# Altium footprint library CAP-ELECTRO-SMD.PcbLib: 1 footprints
Each footprint in its own frame and in the unit in brackets; x right, y up, seen from the top. Pads: shape width x height; smd on the part's side, far side on the other; paste and mask are expansions set on the pad; w line width, h text height; cw(c..) or ccw(c..) is an arc to the next point about the centre after c.
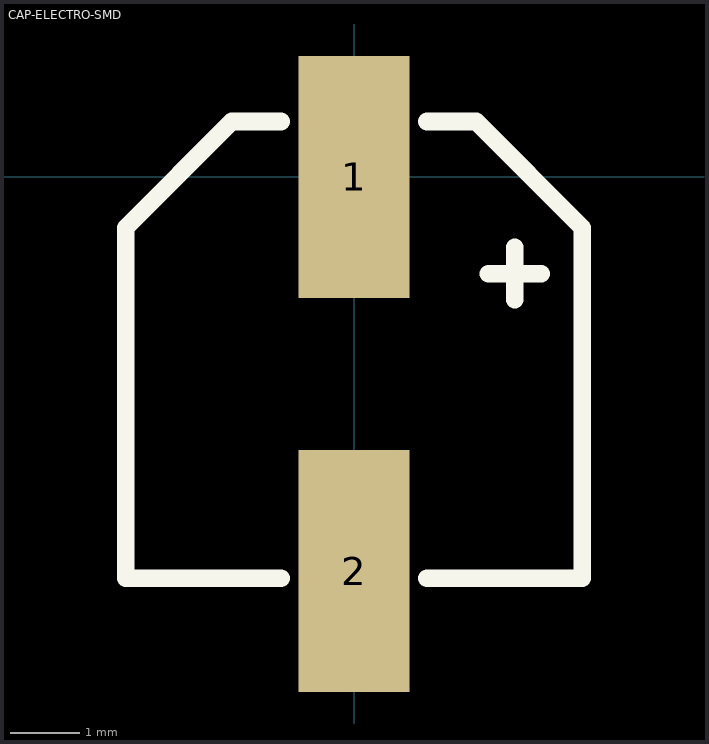
[diagram p0: the footprint, top view; thin cyan lines are the x and y axes]

## CAP-ELECTRO-SMD [mm]
pads (2):
  rect 1.6x3.5 smd: 1(0,0) 2(0,-5.7)
Top Overlay:
  lines w0.254: -1.055,-5.8 -3.3,-5.8 -3.3,-0.735 -1.765,0.8 -1.055,0.8 ; 1.055,-5.8 3.3,-5.8 3.3,-0.735 1.765,0.8 1.055,0.8 ; 1.944,-1.398 2.706,-1.398 ; 2.325,-1.779 2.325,-1.017